# Altium footprint library SOP50P810X120-57N.PcbLib: 1 footprints
Each footprint in its own frame and in the unit in brackets; x right, y up, seen from the top. Pads: shape width x height; smd on the part's side, far side on the other; paste and mask are expansions set on the pad; w line width, h text height; cw(c..) or ccw(c..) is an arc to the next point about the centre after c.
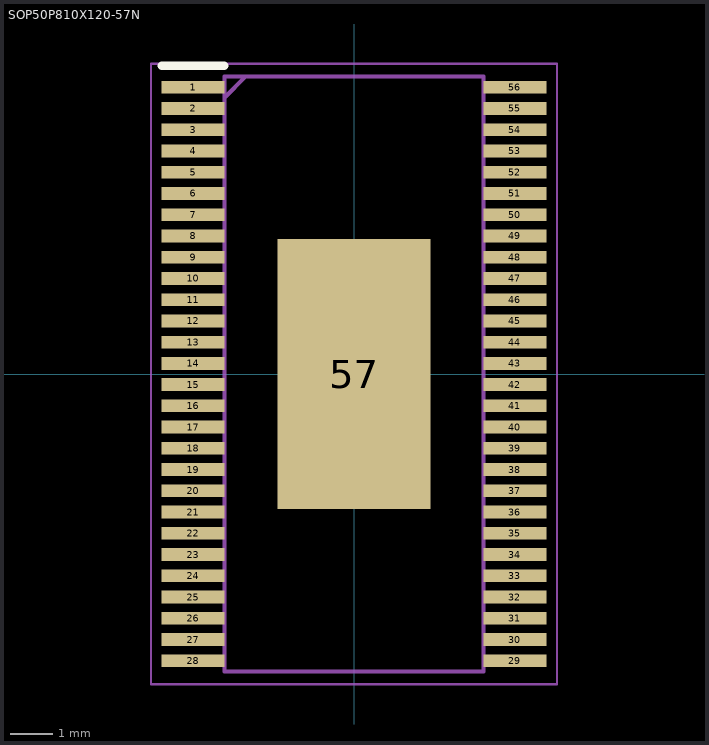
[diagram p0: the footprint, top view; thin cyan lines are the x and y axes]

## SOP50P810X120-57N [mm]
pads (57):
  rect 1.475x0.3 smd: 1(-3.788,6.75) 2(-3.788,6.25) 3(-3.788,5.75) 4(-3.788,5.25) 5(-3.788,4.75) 6(-3.788,4.25) 7(-3.788,3.75) 8(-3.788,3.25) 9(-3.788,2.75) 10(-3.788,2.25) 11(-3.788,1.75) 12(-3.788,1.25) 13(-3.788,0.75) 14(-3.788,0.25) 15(-3.788,-0.25) 16(-3.788,-0.75) 17(-3.788,-1.25) 18(-3.788,-1.75) 19(-3.788,-2.25) 20(-3.788,-2.75) 21(-3.788,-3.25) 22(-3.788,-3.75) 23(-3.788,-4.25) 24(-3.788,-4.75) 25(-3.788,-5.25) 26(-3.788,-5.75) 27(-3.788,-6.25) 28(-3.788,-6.75) 29(3.788,-6.75) 30(3.788,-6.25) 31(3.788,-5.75) 32(3.788,-5.25) 33(3.788,-4.75) 34(3.788,-4.25) 35(3.788,-3.75) 36(3.788,-3.25) 37(3.788,-2.75) 38(3.788,-2.25) 39(3.788,-1.75) 40(3.788,-1.25) 41(3.788,-0.75) 42(3.788,-0.25) 43(3.788,0.25) 44(3.788,0.75) 45(3.788,1.25) 46(3.788,1.75) 47(3.788,2.25) 48(3.788,2.75) 49(3.788,3.25) 50(3.788,3.75) 51(3.788,4.25) 52(3.788,4.75) 53(3.788,5.25) 54(3.788,5.75) 55(3.788,6.25) 56(3.788,6.75)
  rect 3.61x6.35 smd: 57(0,0)
Top Overlay:
  lines w0.2: -4.525,7.25 -3.05,7.25
Mechanical 15:
  lines w0.1: -3.05,6.5 -2.55,7 ; -3.05,-7 3.05,-7 3.05,7 -3.05,7 -3.05,-7
Mechanical 20:
  lines w0.05: -4.775,-7.3 4.775,-7.3 4.775,7.3 -4.775,7.3 -4.775,-7.3